# Altium schematic symbol library m68k.SchLib: 102 symbols (part 3 of 3)
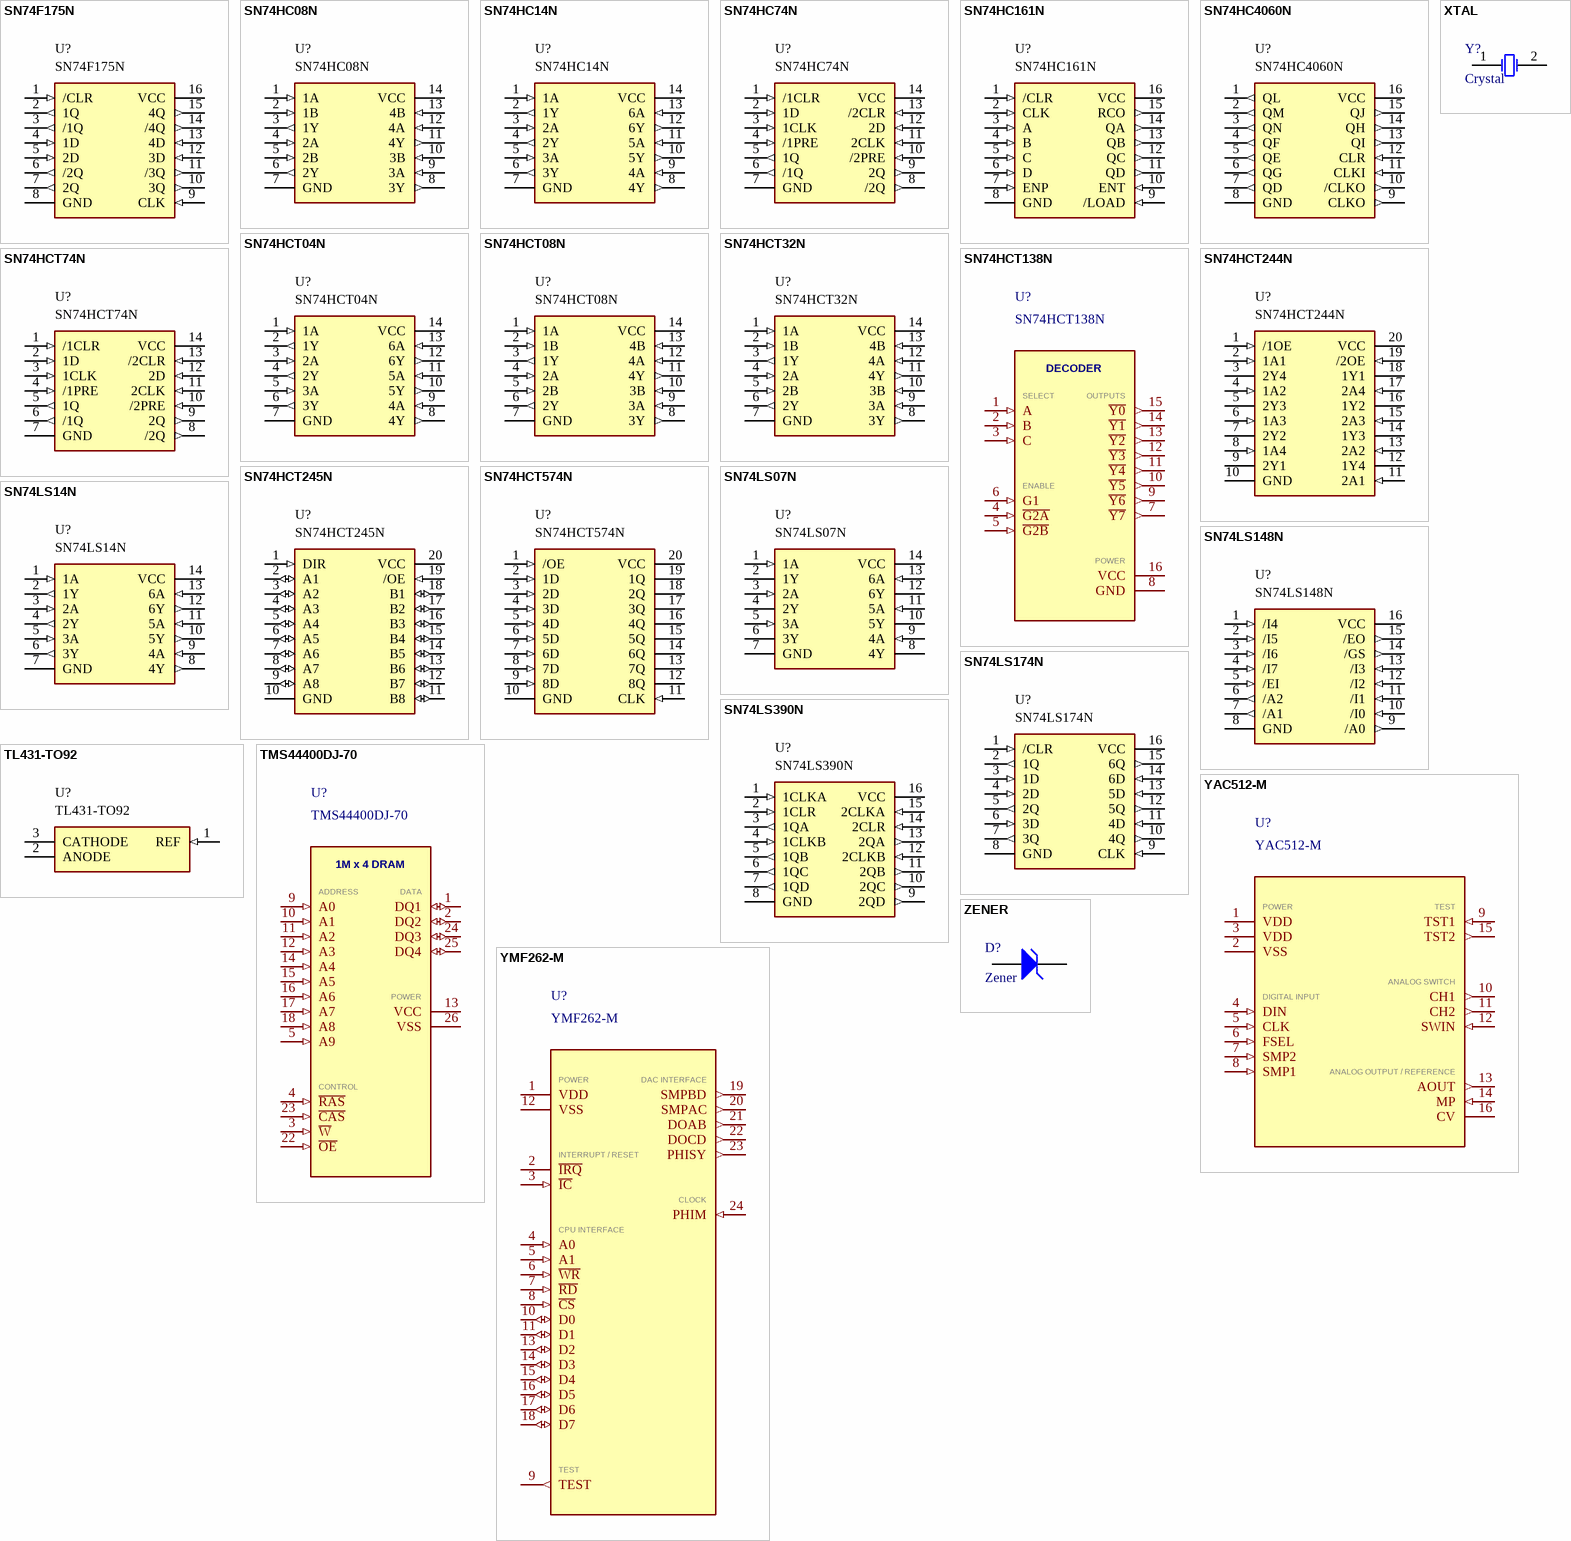
[diagram p7: symbols SN74F175N to ZENER]

## TMS44400DJ-70
designator U?
Texas Instruments TMS44400DJ-70; 1,048,576 x 4-bit (4 Mbit) fast-page-mode DRAM, 70 ns, 20-lead 300-mil SOJ (DJ). Single part.; Symbol Parts: A: 1M x 4 DRAM; Pin Source: Transcribed from the DJ package top-view pin diagram and pin nomenclature table supplied in this conversation. Electrical types assigned from the standard fast-page-mode DRAM signal functions; not read from a TI signal-description table.; Manufacturer: Texas Instruments; Manufacturer Part Number: TMS44400DJ-70; Package: 26-position, 20-lead SOJ (TI DJ package); positions 6-8 and 19-21 carry no leads
footprint SOJ127P851X376-26M (SOJ, 26-Leads, Body 17.27x8.51mm, Pitch 1.27mm, IPC Low Density)
pins: 1 DQ1 (io) "Bidirectional data; common data-in/data-out terminal. Datasheet pin nomenclature abbreviates DQ1-DQ4 as "Data In".", 2 DQ2 (io) "Bidirectional data; common data-in/data-out terminal. Datasheet pin nomenclature abbreviates DQ1-DQ4 as "Data In".", 3 ~{W} (in) "Active-low write enable; selects read or write for the current cycle.", 4 ~{RAS} (in) "Active-low row-address strobe.", 5 A9 (in) "Multiplexed row/column address input; latched by RAS for the row address and by CAS for the column address.", 9 A0 (in) "Multiplexed row/column address input; latched by RAS for the row address and by CAS for the column address.", 10 A1 (in) "Multiplexed row/column address input; latched by RAS for the row address and by CAS for the column address.", 11 A2 (in) "Multiplexed row/column address input; latched by RAS for the row address and by CAS for the column address.", 12 A3 (in) "Multiplexed row/column address input; latched by RAS for the row address and by CAS for the column address.", 13 VCC (power) "Positive supply. Datasheet pin nomenclature lists VCC as a 5-V or 3.3-V supply across the family; confirm the rail for this specific part number.", 14 A4 (in) "Multiplexed row/column address input; latched by RAS for the row address and by CAS for the column address.", 15 A5 (in) "Multiplexed row/column address input; latched by RAS for the row address and by CAS for the column address.", 16 A6 (in) "Multiplexed row/column address input; latched by RAS for the row address and by CAS for the column address.", 17 A7 (in) "Multiplexed row/column address input; latched by RAS for the row address and by CAS for the column address.", 18 A8 (in) "Multiplexed row/column address input; latched by RAS for the row address and by CAS for the column address.", 22 ~{OE} (in) "Active-low output enable; gates the DQ output buffers.", 23 ~{CAS} (in) "Active-low column-address strobe.", 24 DQ3 (io) "Bidirectional data; common data-in/data-out terminal. Datasheet pin nomenclature abbreviates DQ1-DQ4 as "Data In".", 25 DQ4 (io) "Bidirectional data; common data-in/data-out terminal. Datasheet pin nomenclature abbreviates DQ1-DQ4 as "Data In".", 26 VSS (power) "Ground."
text: 1M x 4 DRAM; ADDRESS; DATA; POWER; CONTROL

## XTAL
designator Y?, comment Crystal
pins: 1 OSC1, 2 OSC2

## YAC512-M
designator U?
16-bit serial input DAC, 16-pin SOP package (datasheet labels the package plainly '16SOP'; '-M' suffix assumed here by analogy to the sibling YMF262-M/-S naming, see datasheet field); Manufacturer: Yamaha; Manufacturer Part Number: YAC512-M; Package: 16-pin SOP; Datasheet: Yamaha YAC512 datasheet, 'PIN CONFIGURATION' (16SOP Top View) and 'PIN FUNCTION' table - user-supplied images. Datasheet labels the package plainly '16SOP'; the '-M' suffix here follows the same SOP-package naming convention as the sibling YMF262-M.
footprint SOP127P780X230-16N (SOP, 16-Leads, Body 10.20x5.30mm, Pitch 1.27mm, IPC Medium Density)
pins: 1 VDD (power) "+5V power supply", 2 VSS (power) "Ground", 3 VDD (power) "+5V power supply", 4 DIN (in) "Digital data input: serial data", 5 CLK (in) "Digital data input: bit clock", 6 FSEL (in) "Data format select: H = offset binary, L = 2's complement", 7 SMP2 (in) "CH1 latch / CH2 sample signal", 8 SMP1 (in) "CH2 latch / CH1 sample signal", 9 TST1 (in) "LSI test terminal; connect to VDD for normal operation", 10 CH1 (out) "Analog switch CH1 output", 11 CH2 (out) "Analog switch CH2 output", 12 SWIN (in) "Analog switch CH1/CH2 common input", 13 AOUT (out) "CH1/CH2 analog output; connect to SWIN via op-amp", 14 MP (in) "Analog shifter reference voltage input; bias with 1/2 VDD", 15 TST2 (out) "LSI test terminal; leave disconnected for normal operation", 16 CV "DAC center voltage terminal; connect to MP via op-amp"
text: POWER; TEST; ANALOG SWITCH; DIGITAL INPUT; ANALOG OUTPUT / REFERENCE

## YMF262-M
designator U?
OPL3 FM Operator Type-L3 sound generator (24-pin SOP package); Manufacturer: Yamaha; Manufacturer Part Number: YMF262-M; Package: 24-pin SOP; Datasheet: Yamaha YMF262 datasheet, page 2, 'PIN OUT DIAGRAM of YMF262-M' and 'PIN CONFIGURATION' table (24SOP column) - user-supplied images
footprint SOP127P1180X250-24N (SOP, 24-Leads, Body 15.50x8.40mm, Pitch 1.27mm, IPC Medium Density)
pins: 1 VDD (power) "+5V supply", 2 ~{IRQ} (oc) "Timer interrupt request, open-drain output", 3 ~{IC} (in) "Initial clear, internal pull-up", 4 A0 (in) "Address select input", 5 A1 (in) "Address select input", 6 ~{WR} (in) "Write enable input", 7 ~{RD} (in) "Read enable input", 8 ~{CS} (in) "Chip select input, internal pull-up", 9 TEST (out) "LSI test pin, normally left unconnected (N.C.)", 10 D0 (io) "Data bus, LSB", 11 D1 (io), 12 VSS (power) "Ground", 13 D2 (io), 14 D3 (io), 15 D4 (io), 16 D5 (io), 17 D6 (io), 18 D7 (io) "Data bus, MSB", 19 SMPBD (out) "B and D channel sample/hold", 20 SMPAC (out) "A and C channel sample/hold", 21 DOAB (out) "A and B channel serial data output", 22 DOCD (out) "C and D channel serial data output", 23 PHISY (out) "Data latch signal. Datasheet designator is the Greek letter phi followed by SY; rendered here as PHISY since the symbol-writer's font cannot encode the Greek letter", 24 PHIM (in) "Master clock input, 14.32 MHz. Datasheet designator is the Greek letter phi followed by M; rendered here as PHIM since the symbol-writer's font cannot encode the Greek letter"
text: POWER; DAC INTERFACE; INTERRUPT / RESET; CLOCK; CPU INTERFACE

## ZENER
designator D?, comment Zener
pins: 1 A, 2 K